# Altium schematic symbol library BGT24ATR22.SchLib: 1 symbol
Pins are listed as number, name and electrical type; pins without a type are passive.

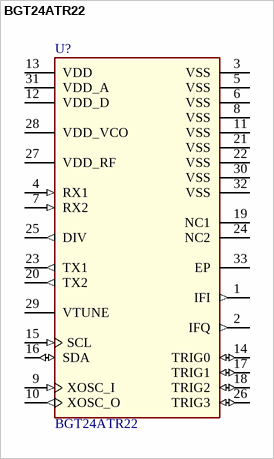
[diagram p0: symbol BGT24ATR22]

## BGT24ATR22
designator U?
Silicon Germanium Monolithic Microwave Integrated Circuit; Multiple Parts: No; Symbol Type: Silicon Germanium Monolithic Microwave Integrated Circuit; Alternate View: No
pins: 1 IFI (out) "DFT not recommend to be used by customers", 2 IFQ (out) "DFT not recommend to be used by customers", 3 VSS (power) "Ground", 4 RX1 (in) "RX1 RF input signal", 5 VSS (power) "Ground", 6 VSS (power) "Ground", 7 RX2 (in) "RX2 RF input signal", 8 VSS (power) "Ground", 9 XOSC_I (in) "External reference clock output", 10 XOSC_O (out) "External reference clock input - quartz", 11 VSS (power) "Ground", 12 VDD_D (power) "Supply voltage for digital domain internally generated", 13 VDD (power) "Supply voltage for LDO and trigger pins", 14 TRIG0 (io) "External trigger pin 0", 15 SCL (in) "Serial clock (I2C clock) pin", 16 SDA (io) "Serial data (I2C data) pin", 17 TRIG1 (io) "External trigger pin 1", 18 TRIG2 (io) "External trigger pin 2", 19 NC1 "Not connected", 20 TX2 (out) "TX2 RF output signal", 21 VSS (power) "Ground", 22 VSS (power) "Ground", 23 TX1 (out) "TX1 RF output signal", 24 NC2 "Not connected", 25 DIV (out) "Frequency divider output", 26 TRIG3 (io) "External trigger pin 3", 27 VDD_RF (power) "Supply voltage for the RF domain", 28 VDD_VCO (power) "Supply voltage for the VCO domain", 29 VTUNE (power) "VCO tuning voltage", 30 VSS (power) "Ground", 31 VDD_A (power) "Supply voltage for the analog domain", 32 VSS (power) "Ground", 33 EP (power) "Exposed Pad"